# Altium footprint library IPC-SM-782 Section 14.1.2 PBGA 1.27mm.PcbLib: 49 footprints (part 7 of 11)
Each footprint in its own frame and in the unit in brackets; x right, y up, seen from the top. Pads: shape width x height; smd on the part's side, far side on the other; paste and mask are expansions set on the pad; w line width, h text height; cw(c..) or ccw(c..) is an arc to the next point about the centre after c.
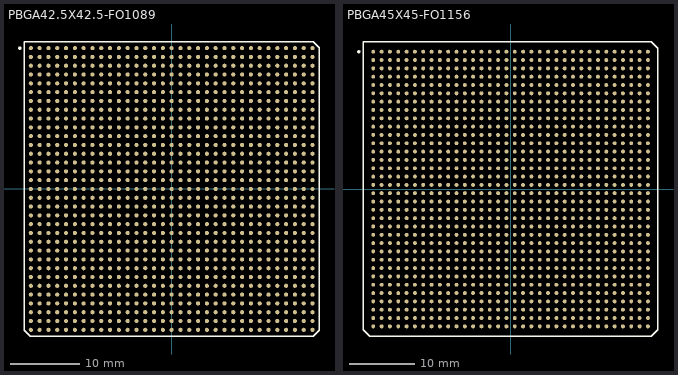
[diagram p6: the footprints below, top view; thin cyan lines are the x and y axes]

## PBGA42.5X42.5-FO1089 [mm] "BGA; 1089 Balls; Body 42.5 x 42.5 mm; Pitch 1.27 mm"
height 3.5
pads (1089):
  round 0.6 smd: A1(-20.32,20.32) A2(-19.05,20.32) A3(-17.78,20.32) A4(-16.51,20.32) A5(-15.24,20.32) A6(-13.97,20.32) A7(-12.7,20.32) A8(-11.43,20.32) A9(-10.16,20.32) A10(-8.89,20.32) A11(-7.62,20.32) A12(-6.35,20.32) A13(-5.08,20.32) A14(-3.81,20.32) A15(-2.54,20.32) A16(-1.27,20.32) A17(0,20.32) A18(1.27,20.32) A19(2.54,20.32) A20(3.81,20.32) A21(5.08,20.32) A22(6.35,20.32) A23(7.62,20.32) A24(8.89,20.32) A25(10.16,20.32) A26(11.43,20.32) A27(12.7,20.32) A28(13.97,20.32) A29(15.24,20.32) A30(16.51,20.32) A31(17.78,20.32) A32(19.05,20.32) A33(20.32,20.32) AA1(-20.32,-5.08) AA2(-19.05,-5.08) AA3(-17.78,-5.08) AA4(-16.51,-5.08) AA5(-15.24,-5.08) AA6(-13.97,-5.08) AA7(-12.7,-5.08) AA8(-11.43,-5.08) AA9(-10.16,-5.08) AA10(-8.89,-5.08) AA11(-7.62,-5.08) AA12(-6.35,-5.08) AA13(-5.08,-5.08) AA14(-3.81,-5.08) AA15(-2.54,-5.08) AA16(-1.27,-5.08) AA17(0,-5.08) AA18(1.27,-5.08) AA19(2.54,-5.08) AA20(3.81,-5.08) AA21(5.08,-5.08) AA22(6.35,-5.08) AA23(7.62,-5.08) AA24(8.89,-5.08) AA25(10.16,-5.08) AA26(11.43,-5.08) AA27(12.7,-5.08) AA28(13.97,-5.08) AA29(15.24,-5.08) AA30(16.51,-5.08) AA31(17.78,-5.08) AA32(19.05,-5.08) AA33(20.32,-5.08) AB1(-20.32,-6.35) AB2(-19.05,-6.35) AB3(-17.78,-6.35) AB4(-16.51,-6.35) AB5(-15.24,-6.35) AB6(-13.97,-6.35) AB7(-12.7,-6.35) AB8(-11.43,-6.35) AB9(-10.16,-6.35) AB10(-8.89,-6.35) AB11(-7.62,-6.35) AB12(-6.35,-6.35) AB13(-5.08,-6.35) AB14(-3.81,-6.35) AB15(-2.54,-6.35) AB16(-1.27,-6.35) AB17(0,-6.35) AB18(1.27,-6.35) AB19(2.54,-6.35) AB20(3.81,-6.35) AB21(5.08,-6.35) AB22(6.35,-6.35) AB23(7.62,-6.35) AB24(8.89,-6.35) AB25(10.16,-6.35) AB26(11.43,-6.35) AB27(12.7,-6.35) AB28(13.97,-6.35) AB29(15.24,-6.35) AB30(16.51,-6.35) AB31(17.78,-6.35) AB32(19.05,-6.35) AB33(20.32,-6.35) AC1(-20.32,-7.62) AC2(-19.05,-7.62) AC3(-17.78,-7.62) AC4(-16.51,-7.62) AC5(-15.24,-7.62) AC6(-13.97,-7.62) AC7(-12.7,-7.62) AC8(-11.43,-7.62) AC9(-10.16,-7.62) AC10(-8.89,-7.62) AC11(-7.62,-7.62) AC12(-6.35,-7.62) AC13(-5.08,-7.62) AC14(-3.81,-7.62) AC15(-2.54,-7.62) AC16(-1.27,-7.62) AC17(0,-7.62) AC18(1.27,-7.62) AC19(2.54,-7.62) AC20(3.81,-7.62) AC21(5.08,-7.62) AC22(6.35,-7.62) AC23(7.62,-7.62) AC24(8.89,-7.62) AC25(10.16,-7.62) AC26(11.43,-7.62) AC27(12.7,-7.62) AC28(13.97,-7.62) AC29(15.24,-7.62) AC30(16.51,-7.62) AC31(17.78,-7.62) AC32(19.05,-7.62) AC33(20.32,-7.62) AD1(-20.32,-8.89) AD2(-19.05,-8.89) AD3(-17.78,-8.89) AD4(-16.51,-8.89) AD5(-15.24,-8.89) AD6(-13.97,-8.89) AD7(-12.7,-8.89) AD8(-11.43,-8.89) AD9(-10.16,-8.89) AD10(-8.89,-8.89) AD11(-7.62,-8.89) AD12(-6.35,-8.89) AD13(-5.08,-8.89) AD14(-3.81,-8.89) AD15(-2.54,-8.89) AD16(-1.27,-8.89) AD17(0,-8.89) AD18(1.27,-8.89) AD19(2.54,-8.89) AD20(3.81,-8.89) AD21(5.08,-8.89) AD22(6.35,-8.89) AD23(7.62,-8.89) AD24(8.89,-8.89) AD25(10.16,-8.89) AD26(11.43,-8.89) AD27(12.7,-8.89) AD28(13.97,-8.89) AD29(15.24,-8.89) AD30(16.51,-8.89) AD31(17.78,-8.89) AD32(19.05,-8.89) AD33(20.32,-8.89) AE1(-20.32,-10.16) AE2(-19.05,-10.16) AE3(-17.78,-10.16) AE4(-16.51,-10.16) AE5(-15.24,-10.16) AE6(-13.97,-10.16) AE7(-12.7,-10.16) AE8(-11.43,-10.16) AE9(-10.16,-10.16) AE10(-8.89,-10.16) AE11(-7.62,-10.16) AE12(-6.35,-10.16) AE13(-5.08,-10.16) AE14(-3.81,-10.16) AE15(-2.54,-10.16) AE16(-1.27,-10.16) AE17(0,-10.16) AE18(1.27,-10.16) AE19(2.54,-10.16) AE20(3.81,-10.16) AE21(5.08,-10.16) AE22(6.35,-10.16) AE23(7.62,-10.16) AE24(8.89,-10.16) AE25(10.16,-10.16) AE26(11.43,-10.16) AE27(12.7,-10.16) AE28(13.97,-10.16) AE29(15.24,-10.16) AE30(16.51,-10.16) AE31(17.78,-10.16) AE32(19.05,-10.16) AE33(20.32,-10.16) AF1(-20.32,-11.43) AF2(-19.05,-11.43) AF3(-17.78,-11.43) AF4(-16.51,-11.43) AF5(-15.24,-11.43) AF6(-13.97,-11.43) AF7(-12.7,-11.43) AF8(-11.43,-11.43) AF9(-10.16,-11.43) AF10(-8.89,-11.43) AF11(-7.62,-11.43) AF12(-6.35,-11.43) AF13(-5.08,-11.43) AF14(-3.81,-11.43) AF15(-2.54,-11.43) AF16(-1.27,-11.43) AF17(0,-11.43) AF18(1.27,-11.43) AF19(2.54,-11.43) AF20(3.81,-11.43) AF21(5.08,-11.43) AF22(6.35,-11.43) AF23(7.62,-11.43) AF24(8.89,-11.43) AF25(10.16,-11.43) AF26(11.43,-11.43) AF27(12.7,-11.43) AF28(13.97,-11.43) AF29(15.24,-11.43) AF30(16.51,-11.43) AF31(17.78,-11.43) AF32(19.05,-11.43) AF33(20.32,-11.43) AG1(-20.32,-12.7) AG2(-19.05,-12.7) AG3(-17.78,-12.7) AG4(-16.51,-12.7) AG5(-15.24,-12.7) AG6(-13.97,-12.7) AG7(-12.7,-12.7) AG8(-11.43,-12.7) AG9(-10.16,-12.7) AG10(-8.89,-12.7) AG11(-7.62,-12.7) AG12(-6.35,-12.7) AG13(-5.08,-12.7) AG14(-3.81,-12.7) AG15(-2.54,-12.7) AG16(-1.27,-12.7) AG17(0,-12.7) AG18(1.27,-12.7) AG19(2.54,-12.7) AG20(3.81,-12.7) AG21(5.08,-12.7) AG22(6.35,-12.7) AG23(7.62,-12.7) AG24(8.89,-12.7) AG25(10.16,-12.7) AG26(11.43,-12.7) AG27(12.7,-12.7) AG28(13.97,-12.7) AG29(15.24,-12.7) AG30(16.51,-12.7) AG31(17.78,-12.7) AG32(19.05,-12.7) AG33(20.32,-12.7) AH1(-20.32,-13.97) AH2(-19.05,-13.97) AH3(-17.78,-13.97) AH4(-16.51,-13.97) AH5(-15.24,-13.97) AH6(-13.97,-13.97) AH7(-12.7,-13.97) AH8(-11.43,-13.97) AH9(-10.16,-13.97) AH10(-8.89,-13.97) AH11(-7.62,-13.97) AH12(-6.35,-13.97) AH13(-5.08,-13.97) AH14(-3.81,-13.97) AH15(-2.54,-13.97) AH16(-1.27,-13.97) AH17(0,-13.97) AH18(1.27,-13.97) AH19(2.54,-13.97) AH20(3.81,-13.97) AH21(5.08,-13.97) AH22(6.35,-13.97) AH23(7.62,-13.97) AH24(8.89,-13.97) AH25(10.16,-13.97) AH26(11.43,-13.97) AH27(12.7,-13.97) AH28(13.97,-13.97) AH29(15.24,-13.97) AH30(16.51,-13.97) AH31(17.78,-13.97) AH32(19.05,-13.97) AH33(20.32,-13.97) AJ1(-20.32,-15.24) AJ2(-19.05,-15.24) AJ3(-17.78,-15.24) AJ4(-16.51,-15.24) AJ5(-15.24,-15.24) AJ6(-13.97,-15.24) AJ7(-12.7,-15.24) AJ8(-11.43,-15.24) AJ9(-10.16,-15.24) AJ10(-8.89,-15.24) AJ11(-7.62,-15.24) AJ12(-6.35,-15.24) AJ13(-5.08,-15.24) AJ14(-3.81,-15.24) AJ15(-2.54,-15.24) AJ16(-1.27,-15.24) AJ17(0,-15.24) AJ18(1.27,-15.24) AJ19(2.54,-15.24) AJ20(3.81,-15.24) AJ21(5.08,-15.24) AJ22(6.35,-15.24) AJ23(7.62,-15.24) AJ24(8.89,-15.24) AJ25(10.16,-15.24) AJ26(11.43,-15.24) AJ27(12.7,-15.24) AJ28(13.97,-15.24) AJ29(15.24,-15.24) AJ30(16.51,-15.24) AJ31(17.78,-15.24) AJ32(19.05,-15.24) AJ33(20.32,-15.24) AK1(-20.32,-16.51) AK2(-19.05,-16.51) AK3(-17.78,-16.51) AK4(-16.51,-16.51) AK5(-15.24,-16.51) AK6(-13.97,-16.51) AK7(-12.7,-16.51) AK8(-11.43,-16.51) AK9(-10.16,-16.51) AK10(-8.89,-16.51) AK11(-7.62,-16.51) AK12(-6.35,-16.51) AK13(-5.08,-16.51) AK14(-3.81,-16.51) AK15(-2.54,-16.51) AK16(-1.27,-16.51) AK17(0,-16.51) AK18(1.27,-16.51) AK19(2.54,-16.51) AK20(3.81,-16.51) AK21(5.08,-16.51) AK22(6.35,-16.51) AK23(7.62,-16.51) AK24(8.89,-16.51) AK25(10.16,-16.51) AK26(11.43,-16.51) AK27(12.7,-16.51) AK28(13.97,-16.51) AK29(15.24,-16.51) AK30(16.51,-16.51) AK31(17.78,-16.51) AK32(19.05,-16.51) AK33(20.32,-16.51) AL1(-20.32,-17.78) AL2(-19.05,-17.78) AL3(-17.78,-17.78) AL4(-16.51,-17.78) AL5(-15.24,-17.78) AL6(-13.97,-17.78) AL7(-12.7,-17.78) AL8(-11.43,-17.78) AL9(-10.16,-17.78) AL10(-8.89,-17.78) AL11(-7.62,-17.78) AL12(-6.35,-17.78) AL13(-5.08,-17.78) AL14(-3.81,-17.78) AL15(-2.54,-17.78) AL16(-1.27,-17.78) AL17(0,-17.78) AL18(1.27,-17.78) AL19(2.54,-17.78) AL20(3.81,-17.78) AL21(5.08,-17.78) AL22(6.35,-17.78) AL23(7.62,-17.78) AL24(8.89,-17.78) AL25(10.16,-17.78) AL26(11.43,-17.78) AL27(12.7,-17.78) AL28(13.97,-17.78) AL29(15.24,-17.78) AL30(16.51,-17.78) AL31(17.78,-17.78) AL32(19.05,-17.78) AL33(20.32,-17.78) AM1(-20.32,-19.05) AM2(-19.05,-19.05) AM3(-17.78,-19.05) AM4(-16.51,-19.05) AM5(-15.24,-19.05) AM6(-13.97,-19.05) AM7(-12.7,-19.05) AM8(-11.43,-19.05) AM9(-10.16,-19.05) AM10(-8.89,-19.05) AM11(-7.62,-19.05) AM12(-6.35,-19.05) AM13(-5.08,-19.05) AM14(-3.81,-19.05) AM15(-2.54,-19.05) AM16(-1.27,-19.05) AM17(0,-19.05) AM18(1.27,-19.05) AM19(2.54,-19.05) AM20(3.81,-19.05) AM21(5.08,-19.05) AM22(6.35,-19.05) AM23(7.62,-19.05) AM24(8.89,-19.05) AM25(10.16,-19.05) AM26(11.43,-19.05) AM27(12.7,-19.05) AM28(13.97,-19.05) AM29(15.24,-19.05) AM30(16.51,-19.05) AM31(17.78,-19.05) AM32(19.05,-19.05) AM33(20.32,-19.05) AN1(-20.32,-20.32) AN2(-19.05,-20.32) AN3(-17.78,-20.32) AN4(-16.51,-20.32) AN5(-15.24,-20.32) AN6(-13.97,-20.32) AN7(-12.7,-20.32) AN8(-11.43,-20.32) AN9(-10.16,-20.32) AN10(-8.89,-20.32) AN11(-7.62,-20.32) AN12(-6.35,-20.32) AN13(-5.08,-20.32) AN14(-3.81,-20.32) AN15(-2.54,-20.32) AN16(-1.27,-20.32) AN17(0,-20.32) AN18(1.27,-20.32) AN19(2.54,-20.32) AN20(3.81,-20.32) AN21(5.08,-20.32) AN22(6.35,-20.32) AN23(7.62,-20.32) AN24(8.89,-20.32) AN25(10.16,-20.32) AN26(11.43,-20.32) AN27(12.7,-20.32) AN28(13.97,-20.32) AN29(15.24,-20.32) AN30(16.51,-20.32) AN31(17.78,-20.32) AN32(19.05,-20.32) AN33(20.32,-20.32) B1(-20.32,19.05) B2(-19.05,19.05) B3(-17.78,19.05) B4(-16.51,19.05) B5(-15.24,19.05) B6(-13.97,19.05) B7(-12.7,19.05) B8(-11.43,19.05) B9(-10.16,19.05) B10(-8.89,19.05) B11(-7.62,19.05) B12(-6.35,19.05) B13(-5.08,19.05) B14(-3.81,19.05) B15(-2.54,19.05) B16(-1.27,19.05) B17(0,19.05) B18(1.27,19.05) B19(2.54,19.05) B20(3.81,19.05) B21(5.08,19.05) B22(6.35,19.05) B23(7.62,19.05) B24(8.89,19.05) B25(10.16,19.05) B26(11.43,19.05) B27(12.7,19.05) B28(13.97,19.05) B29(15.24,19.05) B30(16.51,19.05) B31(17.78,19.05) B32(19.05,19.05) B33(20.32,19.05) C1(-20.32,17.78) C2(-19.05,17.78) C3(-17.78,17.78) C4(-16.51,17.78) C5(-15.24,17.78) C6(-13.97,17.78) C7(-12.7,17.78) C8(-11.43,17.78) C9(-10.16,17.78) C10(-8.89,17.78) C11(-7.62,17.78) C12(-6.35,17.78) C13(-5.08,17.78) C14(-3.81,17.78) C15(-2.54,17.78) C16(-1.27,17.78) C17(0,17.78) C18(1.27,17.78) C19(2.54,17.78) C20(3.81,17.78) C21(5.08,17.78) C22(6.35,17.78) C23(7.62,17.78) C24(8.89,17.78) C25(10.16,17.78) C26(11.43,17.78) C27(12.7,17.78) C28(13.97,17.78) C29(15.24,17.78) C30(16.51,17.78) C31(17.78,17.78) C32(19.05,17.78) C33(20.32,17.78) D1(-20.32,16.51) D2(-19.05,16.51) D3(-17.78,16.51) D4(-16.51,16.51) D5(-15.24,16.51) D6(-13.97,16.51) D7(-12.7,16.51) D8(-11.43,16.51) D9(-10.16,16.51) D10(-8.89,16.51) D11(-7.62,16.51) D12(-6.35,16.51) D13(-5.08,16.51) D14(-3.81,16.51) D15(-2.54,16.51) D16(-1.27,16.51) D17(0,16.51) D18(1.27,16.51) D19(2.54,16.51) D20(3.81,16.51) D21(5.08,16.51) D22(6.35,16.51) D23(7.62,16.51) D24(8.89,16.51) D25(10.16,16.51) D26(11.43,16.51) D27(12.7,16.51) D28(13.97,16.51) D29(15.24,16.51) D30(16.51,16.51) D31(17.78,16.51) D32(19.05,16.51) D33(20.32,16.51) E1(-20.32,15.24) E2(-19.05,15.24) E3(-17.78,15.24) E4(-16.51,15.24) E5(-15.24,15.24) E6(-13.97,15.24) E7(-12.7,15.24) E8(-11.43,15.24) E9(-10.16,15.24) E10(-8.89,15.24) E11(-7.62,15.24) E12(-6.35,15.24) E13(-5.08,15.24) E14(-3.81,15.24) E15(-2.54,15.24) E16(-1.27,15.24) E17(0,15.24) E18(1.27,15.24) E19(2.54,15.24) E20(3.81,15.24) E21(5.08,15.24) E22(6.35,15.24) E23(7.62,15.24) E24(8.89,15.24) E25(10.16,15.24) E26(11.43,15.24) E27(12.7,15.24) E28(13.97,15.24) E29(15.24,15.24) E30(16.51,15.24) E31(17.78,15.24) E32(19.05,15.24) E33(20.32,15.24) F1(-20.32,13.97) F2(-19.05,13.97) F3(-17.78,13.97) F4(-16.51,13.97) F5(-15.24,13.97) F6(-13.97,13.97) F7(-12.7,13.97) F8(-11.43,13.97) F9(-10.16,13.97) F10(-8.89,13.97) F11(-7.62,13.97) F12(-6.35,13.97) F13(-5.08,13.97) F14(-3.81,13.97) F15(-2.54,13.97) F16(-1.27,13.97) F17(0,13.97) F18(1.27,13.97) F19(2.54,13.97) F20(3.81,13.97) F21(5.08,13.97) F22(6.35,13.97) F23(7.62,13.97) F24(8.89,13.97) F25(10.16,13.97) F26(11.43,13.97) F27(12.7,13.97) F28(13.97,13.97) F29(15.24,13.97) F30(16.51,13.97) F31(17.78,13.97) F32(19.05,13.97) F33(20.32,13.97) G1(-20.32,12.7) G2(-19.05,12.7) G3(-17.78,12.7) G4(-16.51,12.7) G5(-15.24,12.7) G6(-13.97,12.7) G7(-12.7,12.7) G8(-11.43,12.7) G9(-10.16,12.7) G10(-8.89,12.7) G11(-7.62,12.7) G12(-6.35,12.7) G13(-5.08,12.7) G14(-3.81,12.7) G15(-2.54,12.7) G16(-1.27,12.7) G17(0,12.7) G18(1.27,12.7) G19(2.54,12.7) G20(3.81,12.7) G21(5.08,12.7) G22(6.35,12.7) G23(7.62,12.7) G24(8.89,12.7) G25(10.16,12.7) G26(11.43,12.7) G27(12.7,12.7) G28(13.97,12.7) G29(15.24,12.7) G30(16.51,12.7) G31(17.78,12.7) G32(19.05,12.7) G33(20.32,12.7) H1(-20.32,11.43) H2(-19.05,11.43) H3(-17.78,11.43) H4(-16.51,11.43) H5(-15.24,11.43) H6(-13.97,11.43) H7(-12.7,11.43) H8(-11.43,11.43) H9(-10.16,11.43) H10(-8.89,11.43) H11(-7.62,11.43) H12(-6.35,11.43) H13(-5.08,11.43) H14(-3.81,11.43) H15(-2.54,11.43) H16(-1.27,11.43) H17(0,11.43) H18(1.27,11.43) H19(2.54,11.43) H20(3.81,11.43) H21(5.08,11.43) H22(6.35,11.43) H23(7.62,11.43) H24(8.89,11.43) H25(10.16,11.43) H26(11.43,11.43) H27(12.7,11.43) H28(13.97,11.43) H29(15.24,11.43) H30(16.51,11.43) H31(17.78,11.43) H32(19.05,11.43) H33(20.32,11.43) J1(-20.32,10.16) J2(-19.05,10.16) J3(-17.78,10.16) J4(-16.51,10.16) J5(-15.24,10.16) J6(-13.97,10.16) J7(-12.7,10.16) J8(-11.43,10.16) J9(-10.16,10.16) J10(-8.89,10.16) J11(-7.62,10.16) J12(-6.35,10.16) J13(-5.08,10.16) J14(-3.81,10.16) J15(-2.54,10.16) J16(-1.27,10.16) J17(0,10.16) J18(1.27,10.16) J19(2.54,10.16) J20(3.81,10.16) J21(5.08,10.16) J22(6.35,10.16) J23(7.62,10.16) J24(8.89,10.16) J25(10.16,10.16) J26(11.43,10.16) J27(12.7,10.16) J28(13.97,10.16) J29(15.24,10.16) J30(16.51,10.16) J31(17.78,10.16) J32(19.05,10.16) J33(20.32,10.16) K1(-20.32,8.89) K2(-19.05,8.89) K3(-17.78,8.89) K4(-16.51,8.89) K5(-15.24,8.89) K6(-13.97,8.89) K7(-12.7,8.89) K8(-11.43,8.89) K9(-10.16,8.89) K10(-8.89,8.89) K11(-7.62,8.89) K12(-6.35,8.89) K13(-5.08,8.89) K14(-3.81,8.89) K15(-2.54,8.89) K16(-1.27,8.89) K17(0,8.89) K18(1.27,8.89) K19(2.54,8.89) K20(3.81,8.89) K21(5.08,8.89) K22(6.35,8.89) K23(7.62,8.89) K24(8.89,8.89) K25(10.16,8.89) K26(11.43,8.89) K27(12.7,8.89) K28(13.97,8.89) K29(15.24,8.89) K30(16.51,8.89) K31(17.78,8.89) K32(19.05,8.89) K33(20.32,8.89) L1(-20.32,7.62) L2(-19.05,7.62) L3(-17.78,7.62) L4(-16.51,7.62) L5(-15.24,7.62) L6(-13.97,7.62) L7(-12.7,7.62) L8(-11.43,7.62) L9(-10.16,7.62) L10(-8.89,7.62) L11(-7.62,7.62) L12(-6.35,7.62) L13(-5.08,7.62) L14(-3.81,7.62) L15(-2.54,7.62) L16(-1.27,7.62) L17(0,7.62) L18(1.27,7.62) L19(2.54,7.62) L20(3.81,7.62) L21(5.08,7.62) L22(6.35,7.62) L23(7.62,7.62) L24(8.89,7.62) L25(10.16,7.62) L26(11.43,7.62) L27(12.7,7.62) L28(13.97,7.62) L29(15.24,7.62) L30(16.51,7.62) L31(17.78,7.62) L32(19.05,7.62) L33(20.32,7.62) M1(-20.32,6.35) M2(-19.05,6.35) M3(-17.78,6.35) M4(-16.51,6.35) M5(-15.24,6.35) M6(-13.97,6.35) M7(-12.7,6.35) M8(-11.43,6.35) M9(-10.16,6.35) M10(-8.89,6.35) M11(-7.62,6.35) M12(-6.35,6.35) M13(-5.08,6.35) M14(-3.81,6.35) M15(-2.54,6.35) M16(-1.27,6.35) M17(0,6.35) M18(1.27,6.35) M19(2.54,6.35) M20(3.81,6.35) M21(5.08,6.35) M22(6.35,6.35) M23(7.62,6.35) M24(8.89,6.35) M25(10.16,6.35) M26(11.43,6.35) M27(12.7,6.35) M28(13.97,6.35) M29(15.24,6.35) M30(16.51,6.35) M31(17.78,6.35) M32(19.05,6.35) M33(20.32,6.35) N1(-20.32,5.08) N2(-19.05,5.08) N3(-17.78,5.08) N4(-16.51,5.08) N5(-15.24,5.08) N6(-13.97,5.08) N7(-12.7,5.08) N8(-11.43,5.08) N9(-10.16,5.08) N10(-8.89,5.08) N11(-7.62,5.08) N12(-6.35,5.08) N13(-5.08,5.08) N14(-3.81,5.08) N15(-2.54,5.08) N16(-1.27,5.08) N17(0,5.08) N18(1.27,5.08) N19(2.54,5.08) N20(3.81,5.08) N21(5.08,5.08) N22(6.35,5.08) N23(7.62,5.08) N24(8.89,5.08) N25(10.16,5.08) N26(11.43,5.08) N27(12.7,5.08) N28(13.97,5.08) N29(15.24,5.08) N30(16.51,5.08) N31(17.78,5.08) N32(19.05,5.08) N33(20.32,5.08) P1(-20.32,3.81) P2(-19.05,3.81) P3(-17.78,3.81) P4(-16.51,3.81) P5(-15.24,3.81) P6(-13.97,3.81) P7(-12.7,3.81) P8(-11.43,3.81) P9(-10.16,3.81) P10(-8.89,3.81) P11(-7.62,3.81) P12(-6.35,3.81) P13(-5.08,3.81) P14(-3.81,3.81) P15(-2.54,3.81) P16(-1.27,3.81) P17(0,3.81) P18(1.27,3.81) P19(2.54,3.81) P20(3.81,3.81) P21(5.08,3.81) P22(6.35,3.81) P23(7.62,3.81) P24(8.89,3.81) P25(10.16,3.81) P26(11.43,3.81) P27(12.7,3.81) P28(13.97,3.81) P29(15.24,3.81) P30(16.51,3.81) P31(17.78,3.81) P32(19.05,3.81) P33(20.32,3.81) R1(-20.32,2.54) R2(-19.05,2.54) R3(-17.78,2.54) R4(-16.51,2.54) R5(-15.24,2.54) R6(-13.97,2.54) R7(-12.7,2.54) R8(-11.43,2.54) R9(-10.16,2.54) R10(-8.89,2.54) R11(-7.62,2.54) R12(-6.35,2.54) R13(-5.08,2.54) R14(-3.81,2.54) R15(-2.54,2.54) R16(-1.27,2.54) R17(0,2.54) R18(1.27,2.54) R19(2.54,2.54) R20(3.81,2.54) R21(5.08,2.54) R22(6.35,2.54) R23(7.62,2.54) R24(8.89,2.54) R25(10.16,2.54) R26(11.43,2.54) R27(12.7,2.54) R28(13.97,2.54) R29(15.24,2.54) R30(16.51,2.54) R31(17.78,2.54) R32(19.05,2.54) R33(20.32,2.54) T1(-20.32,1.27) T2(-19.05,1.27) T3(-17.78,1.27) T4(-16.51,1.27) T5(-15.24,1.27) T6(-13.97,1.27) T7(-12.7,1.27) T8(-11.43,1.27) T9(-10.16,1.27) T10(-8.89,1.27) T11(-7.62,1.27) T12(-6.35,1.27) T13(-5.08,1.27) T14(-3.81,1.27) T15(-2.54,1.27) T16(-1.27,1.27) T17(0,1.27) T18(1.27,1.27) T19(2.54,1.27) T20(3.81,1.27) T21(5.08,1.27) T22(6.35,1.27) T23(7.62,1.27) T24(8.89,1.27) T25(10.16,1.27) T26(11.43,1.27) T27(12.7,1.27) T28(13.97,1.27) T29(15.24,1.27) T30(16.51,1.27) T31(17.78,1.27) T32(19.05,1.27) T33(20.32,1.27) U1(-20.32,0) U2(-19.05,0) U3(-17.78,0) U4(-16.51,0) U5(-15.24,0) U6(-13.97,0) U7(-12.7,0) U8(-11.43,0) U9(-10.16,0) U10(-8.89,0) U11(-7.62,0) U12(-6.35,0) U13(-5.08,0) U14(-3.81,0) U15(-2.54,0) U16(-1.27,0) U17(0,0) U18(1.27,0) U19(2.54,0) U20(3.81,0) U21(5.08,0) U22(6.35,0) U23(7.62,0) U24(8.89,0) U25(10.16,0) U26(11.43,0) U27(12.7,0) U28(13.97,0) U29(15.24,0) U30(16.51,0) U31(17.78,0) U32(19.05,0) U33(20.32,0) V1(-20.32,-1.27) V2(-19.05,-1.27) V3(-17.78,-1.27) V4(-16.51,-1.27) V5(-15.24,-1.27) V6(-13.97,-1.27) V7(-12.7,-1.27) V8(-11.43,-1.27) V9(-10.16,-1.27) V10(-8.89,-1.27) V11(-7.62,-1.27) V12(-6.35,-1.27) V13(-5.08,-1.27) V14(-3.81,-1.27) V15(-2.54,-1.27) V16(-1.27,-1.27) V17(0,-1.27) V18(1.27,-1.27) V19(2.54,-1.27) V20(3.81,-1.27) V21(5.08,-1.27) V22(6.35,-1.27) V23(7.62,-1.27) V24(8.89,-1.27) V25(10.16,-1.27) V26(11.43,-1.27) V27(12.7,-1.27) V28(13.97,-1.27) V29(15.24,-1.27) V30(16.51,-1.27) V31(17.78,-1.27) V32(19.05,-1.27) V33(20.32,-1.27) W1(-20.32,-2.54) W2(-19.05,-2.54) W3(-17.78,-2.54) W4(-16.51,-2.54) W5(-15.24,-2.54) W6(-13.97,-2.54) W7(-12.7,-2.54) W8(-11.43,-2.54) W9(-10.16,-2.54) W10(-8.89,-2.54) W11(-7.62,-2.54) W12(-6.35,-2.54) W13(-5.08,-2.54) W14(-3.81,-2.54) W15(-2.54,-2.54) W16(-1.27,-2.54) W17(0,-2.54) W18(1.27,-2.54) W19(2.54,-2.54) W20(3.81,-2.54) W21(5.08,-2.54) W22(6.35,-2.54) W23(7.62,-2.54) W24(8.89,-2.54) W25(10.16,-2.54) W26(11.43,-2.54) W27(12.7,-2.54) W28(13.97,-2.54) W29(15.24,-2.54) W30(16.51,-2.54) W31(17.78,-2.54) W32(19.05,-2.54) W33(20.32,-2.54) Y1(-20.32,-3.81) Y2(-19.05,-3.81) Y3(-17.78,-3.81) Y4(-16.51,-3.81) Y5(-15.24,-3.81) Y6(-13.97,-3.81) Y7(-12.7,-3.81) Y8(-11.43,-3.81) Y9(-10.16,-3.81) Y10(-8.89,-3.81) Y11(-7.62,-3.81) Y12(-6.35,-3.81) Y13(-5.08,-3.81) Y14(-3.81,-3.81) Y15(-2.54,-3.81) Y16(-1.27,-3.81) Y17(0,-3.81) Y18(1.27,-3.81) Y19(2.54,-3.81) Y20(3.81,-3.81) Y21(5.08,-3.81) Y22(6.35,-3.81) Y23(7.62,-3.81) Y24(8.89,-3.81) Y25(10.16,-3.81) Y26(11.43,-3.81) Y27(12.7,-3.81) Y28(13.97,-3.81) Y29(15.24,-3.81) Y30(16.51,-3.81) Y31(17.78,-3.81) Y32(19.05,-3.81) Y33(20.32,-3.81)
Top Overlay:
  circle w0.25: c-21.9,20.32 r0.125
  lines w0.2: -21.245,-20.395 -20.385,-21.255 20.395,-21.255 21.255,-20.395 21.255,20.385 20.395,21.245 -21.245,21.245 -21.245,-20.395

## PBGA45X45-FO1156 [mm] "BGA; 1156 Balls; Body 45 x 45 mm; Pitch 1.27 mm"
height 3.5
pads (1156):
  round 0.6 smd: A1(-20.955,20.955) A2(-19.685,20.955) A3(-18.415,20.955) A4(-17.145,20.955) A5(-15.875,20.955) A6(-14.605,20.955) A7(-13.335,20.955) A8(-12.065,20.955) A9(-10.795,20.955) A10(-9.525,20.955) A11(-8.255,20.955) A12(-6.985,20.955) A13(-5.715,20.955) A14(-4.445,20.955) A15(-3.175,20.955) A16(-1.905,20.955) A17(-0.635,20.955) A18(0.635,20.955) A19(1.905,20.955) A20(3.175,20.955) A21(4.445,20.955) A22(5.715,20.955) A23(6.985,20.955) A24(8.255,20.955) A25(9.525,20.955) A26(10.795,20.955) A27(12.065,20.955) A28(13.335,20.955) A29(14.605,20.955) A30(15.875,20.955) A31(17.145,20.955) A32(18.415,20.955) A33(19.685,20.955) A34(20.955,20.955) AA1(-20.955,-4.445) AA2(-19.685,-4.445) AA3(-18.415,-4.445) AA4(-17.145,-4.445) AA5(-15.875,-4.445) AA6(-14.605,-4.445) AA7(-13.335,-4.445) AA8(-12.065,-4.445) AA9(-10.795,-4.445) AA10(-9.525,-4.445) AA11(-8.255,-4.445) AA12(-6.985,-4.445) AA13(-5.715,-4.445) AA14(-4.445,-4.445) AA15(-3.175,-4.445) AA16(-1.905,-4.445) AA17(-0.635,-4.445) AA18(0.635,-4.445) AA19(1.905,-4.445) AA20(3.175,-4.445) AA21(4.445,-4.445) AA22(5.715,-4.445) AA23(6.985,-4.445) AA24(8.255,-4.445) AA25(9.525,-4.445) AA26(10.795,-4.445) AA27(12.065,-4.445) AA28(13.335,-4.445) AA29(14.605,-4.445) AA30(15.875,-4.445) AA31(17.145,-4.445) AA32(18.415,-4.445) AA33(19.685,-4.445) AA34(20.955,-4.445) AB1(-20.955,-5.715) AB2(-19.685,-5.715) AB3(-18.415,-5.715) AB4(-17.145,-5.715) AB5(-15.875,-5.715) AB6(-14.605,-5.715) AB7(-13.335,-5.715) AB8(-12.065,-5.715) AB9(-10.795,-5.715) AB10(-9.525,-5.715) AB11(-8.255,-5.715) AB12(-6.985,-5.715) AB13(-5.715,-5.715) AB14(-4.445,-5.715) AB15(-3.175,-5.715) AB16(-1.905,-5.715) AB17(-0.635,-5.715) AB18(0.635,-5.715) AB19(1.905,-5.715) AB20(3.175,-5.715) AB21(4.445,-5.715) AB22(5.715,-5.715) AB23(6.985,-5.715) AB24(8.255,-5.715) AB25(9.525,-5.715) AB26(10.795,-5.715) AB27(12.065,-5.715) AB28(13.335,-5.715) AB29(14.605,-5.715) AB30(15.875,-5.715) AB31(17.145,-5.715) AB32(18.415,-5.715) AB33(19.685,-5.715) AB34(20.955,-5.715) AC1(-20.955,-6.985) AC2(-19.685,-6.985) AC3(-18.415,-6.985) AC4(-17.145,-6.985) AC5(-15.875,-6.985) AC6(-14.605,-6.985) AC7(-13.335,-6.985) AC8(-12.065,-6.985) AC9(-10.795,-6.985) AC10(-9.525,-6.985) AC11(-8.255,-6.985) AC12(-6.985,-6.985) AC13(-5.715,-6.985) AC14(-4.445,-6.985) AC15(-3.175,-6.985) AC16(-1.905,-6.985) AC17(-0.635,-6.985) AC18(0.635,-6.985) AC19(1.905,-6.985) AC20(3.175,-6.985) AC21(4.445,-6.985) AC22(5.715,-6.985) AC23(6.985,-6.985) AC24(8.255,-6.985) AC25(9.525,-6.985) AC26(10.795,-6.985) AC27(12.065,-6.985) AC28(13.335,-6.985) AC29(14.605,-6.985) AC30(15.875,-6.985) AC31(17.145,-6.985) AC32(18.415,-6.985) AC33(19.685,-6.985) AC34(20.955,-6.985) AD1(-20.955,-8.255) AD2(-19.685,-8.255) AD3(-18.415,-8.255) AD4(-17.145,-8.255) AD5(-15.875,-8.255) AD6(-14.605,-8.255) AD7(-13.335,-8.255) AD8(-12.065,-8.255) AD9(-10.795,-8.255) AD10(-9.525,-8.255) AD11(-8.255,-8.255) AD12(-6.985,-8.255) AD13(-5.715,-8.255) AD14(-4.445,-8.255) AD15(-3.175,-8.255) AD16(-1.905,-8.255) AD17(-0.635,-8.255) AD18(0.635,-8.255) AD19(1.905,-8.255) AD20(3.175,-8.255) AD21(4.445,-8.255) AD22(5.715,-8.255) AD23(6.985,-8.255) AD24(8.255,-8.255) AD25(9.525,-8.255) AD26(10.795,-8.255) AD27(12.065,-8.255) AD28(13.335,-8.255) AD29(14.605,-8.255) AD30(15.875,-8.255) AD31(17.145,-8.255) AD32(18.415,-8.255) AD33(19.685,-8.255) AD34(20.955,-8.255) AE1(-20.955,-9.525) AE2(-19.685,-9.525) AE3(-18.415,-9.525) AE4(-17.145,-9.525) AE5(-15.875,-9.525) AE6(-14.605,-9.525) AE7(-13.335,-9.525) AE8(-12.065,-9.525) AE9(-10.795,-9.525) AE10(-9.525,-9.525) AE11(-8.255,-9.525) AE12(-6.985,-9.525) AE13(-5.715,-9.525) AE14(-4.445,-9.525) AE15(-3.175,-9.525) AE16(-1.905,-9.525) AE17(-0.635,-9.525) AE18(0.635,-9.525) AE19(1.905,-9.525) AE20(3.175,-9.525) AE21(4.445,-9.525) AE22(5.715,-9.525) AE23(6.985,-9.525) AE24(8.255,-9.525) AE25(9.525,-9.525) AE26(10.795,-9.525) AE27(12.065,-9.525) AE28(13.335,-9.525) AE29(14.605,-9.525) AE30(15.875,-9.525) AE31(17.145,-9.525) AE32(18.415,-9.525) AE33(19.685,-9.525) AE34(20.955,-9.525) AF1(-20.955,-10.795) AF2(-19.685,-10.795) AF3(-18.415,-10.795) AF4(-17.145,-10.795) AF5(-15.875,-10.795) AF6(-14.605,-10.795) AF7(-13.335,-10.795) AF8(-12.065,-10.795) AF9(-10.795,-10.795) AF10(-9.525,-10.795) AF11(-8.255,-10.795) AF12(-6.985,-10.795) AF13(-5.715,-10.795) AF14(-4.445,-10.795) AF15(-3.175,-10.795) AF16(-1.905,-10.795) AF17(-0.635,-10.795) AF18(0.635,-10.795) AF19(1.905,-10.795) AF20(3.175,-10.795) AF21(4.445,-10.795) AF22(5.715,-10.795) AF23(6.985,-10.795) AF24(8.255,-10.795) AF25(9.525,-10.795) AF26(10.795,-10.795) AF27(12.065,-10.795) AF28(13.335,-10.795) AF29(14.605,-10.795) AF30(15.875,-10.795) AF31(17.145,-10.795) AF32(18.415,-10.795) AF33(19.685,-10.795) AF34(20.955,-10.795) AG1(-20.955,-12.065) AG2(-19.685,-12.065) AG3(-18.415,-12.065) AG4(-17.145,-12.065) AG5(-15.875,-12.065) AG6(-14.605,-12.065) AG7(-13.335,-12.065) AG8(-12.065,-12.065) AG9(-10.795,-12.065) AG10(-9.525,-12.065) AG11(-8.255,-12.065) AG12(-6.985,-12.065) AG13(-5.715,-12.065) AG14(-4.445,-12.065) AG15(-3.175,-12.065) AG16(-1.905,-12.065) AG17(-0.635,-12.065) AG18(0.635,-12.065) AG19(1.905,-12.065) AG20(3.175,-12.065) AG21(4.445,-12.065) AG22(5.715,-12.065) AG23(6.985,-12.065) AG24(8.255,-12.065) AG25(9.525,-12.065) AG26(10.795,-12.065) AG27(12.065,-12.065) AG28(13.335,-12.065) AG29(14.605,-12.065) AG30(15.875,-12.065) AG31(17.145,-12.065) AG32(18.415,-12.065) AG33(19.685,-12.065) AG34(20.955,-12.065) AH1(-20.955,-13.335) AH2(-19.685,-13.335) AH3(-18.415,-13.335) AH4(-17.145,-13.335) AH5(-15.875,-13.335) AH6(-14.605,-13.335) AH7(-13.335,-13.335) AH8(-12.065,-13.335) AH9(-10.795,-13.335) AH10(-9.525,-13.335) AH11(-8.255,-13.335) AH12(-6.985,-13.335) AH13(-5.715,-13.335) AH14(-4.445,-13.335) AH15(-3.175,-13.335) AH16(-1.905,-13.335) AH17(-0.635,-13.335) AH18(0.635,-13.335) AH19(1.905,-13.335) AH20(3.175,-13.335) AH21(4.445,-13.335) AH22(5.715,-13.335) AH23(6.985,-13.335) AH24(8.255,-13.335) AH25(9.525,-13.335) AH26(10.795,-13.335) AH27(12.065,-13.335) AH28(13.335,-13.335) AH29(14.605,-13.335) AH30(15.875,-13.335) AH31(17.145,-13.335) AH32(18.415,-13.335) AH33(19.685,-13.335) AH34(20.955,-13.335) AJ1(-20.955,-14.605) AJ2(-19.685,-14.605) AJ3(-18.415,-14.605) AJ4(-17.145,-14.605) AJ5(-15.875,-14.605) AJ6(-14.605,-14.605) AJ7(-13.335,-14.605) AJ8(-12.065,-14.605) AJ9(-10.795,-14.605) AJ10(-9.525,-14.605) AJ11(-8.255,-14.605) AJ12(-6.985,-14.605) AJ13(-5.715,-14.605) AJ14(-4.445,-14.605) AJ15(-3.175,-14.605) AJ16(-1.905,-14.605) AJ17(-0.635,-14.605) AJ18(0.635,-14.605) AJ19(1.905,-14.605) AJ20(3.175,-14.605) AJ21(4.445,-14.605) AJ22(5.715,-14.605) AJ23(6.985,-14.605) AJ24(8.255,-14.605) AJ25(9.525,-14.605) AJ26(10.795,-14.605) AJ27(12.065,-14.605) AJ28(13.335,-14.605) AJ29(14.605,-14.605) AJ30(15.875,-14.605) AJ31(17.145,-14.605) AJ32(18.415,-14.605) AJ33(19.685,-14.605) AJ34(20.955,-14.605) AK1(-20.955,-15.875) AK2(-19.685,-15.875) AK3(-18.415,-15.875) AK4(-17.145,-15.875) AK5(-15.875,-15.875) AK6(-14.605,-15.875) AK7(-13.335,-15.875) AK8(-12.065,-15.875) AK9(-10.795,-15.875) AK10(-9.525,-15.875) AK11(-8.255,-15.875) AK12(-6.985,-15.875) AK13(-5.715,-15.875) AK14(-4.445,-15.875) AK15(-3.175,-15.875) AK16(-1.905,-15.875) AK17(-0.635,-15.875) AK18(0.635,-15.875) AK19(1.905,-15.875) AK20(3.175,-15.875) AK21(4.445,-15.875) AK22(5.715,-15.875) AK23(6.985,-15.875) AK24(8.255,-15.875) AK25(9.525,-15.875) AK26(10.795,-15.875) AK27(12.065,-15.875) AK28(13.335,-15.875) AK29(14.605,-15.875) AK30(15.875,-15.875) AK31(17.145,-15.875) AK32(18.415,-15.875) AK33(19.685,-15.875) AK34(20.955,-15.875) AL1(-20.955,-17.145) AL2(-19.685,-17.145) AL3(-18.415,-17.145) AL4(-17.145,-17.145) AL5(-15.875,-17.145) AL6(-14.605,-17.145) AL7(-13.335,-17.145) AL8(-12.065,-17.145) AL9(-10.795,-17.145) AL10(-9.525,-17.145) AL11(-8.255,-17.145) AL12(-6.985,-17.145) AL13(-5.715,-17.145) AL14(-4.445,-17.145) AL15(-3.175,-17.145) AL16(-1.905,-17.145) AL17(-0.635,-17.145) AL18(0.635,-17.145) AL19(1.905,-17.145) AL20(3.175,-17.145) AL21(4.445,-17.145) AL22(5.715,-17.145) AL23(6.985,-17.145) AL24(8.255,-17.145) AL25(9.525,-17.145) AL26(10.795,-17.145) AL27(12.065,-17.145) AL28(13.335,-17.145) AL29(14.605,-17.145) AL30(15.875,-17.145) AL31(17.145,-17.145) AL32(18.415,-17.145) AL33(19.685,-17.145) AL34(20.955,-17.145) AM1(-20.955,-18.415) AM2(-19.685,-18.415) AM3(-18.415,-18.415) AM4(-17.145,-18.415) AM5(-15.875,-18.415) AM6(-14.605,-18.415) AM7(-13.335,-18.415) AM8(-12.065,-18.415) AM9(-10.795,-18.415) AM10(-9.525,-18.415) AM11(-8.255,-18.415) AM12(-6.985,-18.415) AM13(-5.715,-18.415) AM14(-4.445,-18.415) AM15(-3.175,-18.415) AM16(-1.905,-18.415) AM17(-0.635,-18.415) AM18(0.635,-18.415) AM19(1.905,-18.415) AM20(3.175,-18.415) AM21(4.445,-18.415) AM22(5.715,-18.415) AM23(6.985,-18.415) AM24(8.255,-18.415) AM25(9.525,-18.415) AM26(10.795,-18.415) AM27(12.065,-18.415) AM28(13.335,-18.415) AM29(14.605,-18.415) AM30(15.875,-18.415) AM31(17.145,-18.415) AM32(18.415,-18.415) AM33(19.685,-18.415) AM34(20.955,-18.415) AN1(-20.955,-19.685) AN2(-19.685,-19.685) AN3(-18.415,-19.685) AN4(-17.145,-19.685) AN5(-15.875,-19.685) AN6(-14.605,-19.685) AN7(-13.335,-19.685) AN8(-12.065,-19.685) AN9(-10.795,-19.685) AN10(-9.525,-19.685) AN11(-8.255,-19.685) AN12(-6.985,-19.685) AN13(-5.715,-19.685) AN14(-4.445,-19.685) AN15(-3.175,-19.685) AN16(-1.905,-19.685) AN17(-0.635,-19.685) AN18(0.635,-19.685) AN19(1.905,-19.685) AN20(3.175,-19.685) AN21(4.445,-19.685) AN22(5.715,-19.685) AN23(6.985,-19.685) AN24(8.255,-19.685) AN25(9.525,-19.685) AN26(10.795,-19.685) AN27(12.065,-19.685) AN28(13.335,-19.685) AN29(14.605,-19.685) AN30(15.875,-19.685) AN31(17.145,-19.685) AN32(18.415,-19.685) AN33(19.685,-19.685) AN34(20.955,-19.685) AP1(-20.955,-20.955) AP2(-19.685,-20.955) AP3(-18.415,-20.955) AP4(-17.145,-20.955) AP5(-15.875,-20.955) AP6(-14.605,-20.955) AP7(-13.335,-20.955) AP8(-12.065,-20.955) AP9(-10.795,-20.955) AP10(-9.525,-20.955) AP11(-8.255,-20.955) AP12(-6.985,-20.955) AP13(-5.715,-20.955) AP14(-4.445,-20.955) AP15(-3.175,-20.955) AP16(-1.905,-20.955) AP17(-0.635,-20.955) AP18(0.635,-20.955) AP19(1.905,-20.955) AP20(3.175,-20.955) AP21(4.445,-20.955) AP22(5.715,-20.955) AP23(6.985,-20.955) AP24(8.255,-20.955) AP25(9.525,-20.955) AP26(10.795,-20.955) AP27(12.065,-20.955) AP28(13.335,-20.955) AP29(14.605,-20.955) AP30(15.875,-20.955) AP31(17.145,-20.955) AP32(18.415,-20.955) AP33(19.685,-20.955) AP34(20.955,-20.955) B1(-20.955,19.685) B2(-19.685,19.685) B3(-18.415,19.685) B4(-17.145,19.685) B5(-15.875,19.685) B6(-14.605,19.685) B7(-13.335,19.685) B8(-12.065,19.685) B9(-10.795,19.685) B10(-9.525,19.685) B11(-8.255,19.685) B12(-6.985,19.685) B13(-5.715,19.685) B14(-4.445,19.685) B15(-3.175,19.685) B16(-1.905,19.685) B17(-0.635,19.685) B18(0.635,19.685) B19(1.905,19.685) B20(3.175,19.685) B21(4.445,19.685) B22(5.715,19.685) B23(6.985,19.685) B24(8.255,19.685) B25(9.525,19.685) B26(10.795,19.685) B27(12.065,19.685) B28(13.335,19.685) B29(14.605,19.685) B30(15.875,19.685) B31(17.145,19.685) B32(18.415,19.685) B33(19.685,19.685) B34(20.955,19.685) C1(-20.955,18.415) C2(-19.685,18.415) C3(-18.415,18.415) C4(-17.145,18.415) C5(-15.875,18.415) C6(-14.605,18.415) C7(-13.335,18.415) C8(-12.065,18.415) C9(-10.795,18.415) C10(-9.525,18.415) C11(-8.255,18.415) C12(-6.985,18.415) C13(-5.715,18.415) C14(-4.445,18.415) C15(-3.175,18.415) C16(-1.905,18.415) C17(-0.635,18.415) C18(0.635,18.415) C19(1.905,18.415) C20(3.175,18.415) C21(4.445,18.415) C22(5.715,18.415) C23(6.985,18.415) C24(8.255,18.415) C25(9.525,18.415) C26(10.795,18.415) C27(12.065,18.415) C28(13.335,18.415) C29(14.605,18.415) C30(15.875,18.415) C31(17.145,18.415) C32(18.415,18.415) C33(19.685,18.415) C34(20.955,18.415) D1(-20.955,17.145) D2(-19.685,17.145) D3(-18.415,17.145) D4(-17.145,17.145) D5(-15.875,17.145) D6(-14.605,17.145) D7(-13.335,17.145) D8(-12.065,17.145) D9(-10.795,17.145) D10(-9.525,17.145) D11(-8.255,17.145) D12(-6.985,17.145) D13(-5.715,17.145) D14(-4.445,17.145) D15(-3.175,17.145) D16(-1.905,17.145) D17(-0.635,17.145) D18(0.635,17.145) D19(1.905,17.145) D20(3.175,17.145) D21(4.445,17.145) D22(5.715,17.145) D23(6.985,17.145) D24(8.255,17.145) D25(9.525,17.145) D26(10.795,17.145) D27(12.065,17.145) D28(13.335,17.145) D29(14.605,17.145) D30(15.875,17.145) D31(17.145,17.145) D32(18.415,17.145) D33(19.685,17.145) D34(20.955,17.145) E1(-20.955,15.875) E2(-19.685,15.875) E3(-18.415,15.875) E4(-17.145,15.875) E5(-15.875,15.875) E6(-14.605,15.875) E7(-13.335,15.875) E8(-12.065,15.875) E9(-10.795,15.875) E10(-9.525,15.875) E11(-8.255,15.875) E12(-6.985,15.875) E13(-5.715,15.875) E14(-4.445,15.875) E15(-3.175,15.875) E16(-1.905,15.875) E17(-0.635,15.875) E18(0.635,15.875) E19(1.905,15.875) E20(3.175,15.875) E21(4.445,15.875) E22(5.715,15.875) E23(6.985,15.875) E24(8.255,15.875) E25(9.525,15.875) E26(10.795,15.875) E27(12.065,15.875) E28(13.335,15.875) E29(14.605,15.875) E30(15.875,15.875) E31(17.145,15.875) E32(18.415,15.875) E33(19.685,15.875) E34(20.955,15.875) F1(-20.955,14.605) F2(-19.685,14.605) F3(-18.415,14.605) F4(-17.145,14.605) F5(-15.875,14.605) F6(-14.605,14.605) F7(-13.335,14.605) F8(-12.065,14.605) F9(-10.795,14.605) F10(-9.525,14.605) F11(-8.255,14.605) F12(-6.985,14.605) F13(-5.715,14.605) F14(-4.445,14.605) F15(-3.175,14.605) F16(-1.905,14.605) F17(-0.635,14.605) F18(0.635,14.605) F19(1.905,14.605) F20(3.175,14.605) F21(4.445,14.605) F22(5.715,14.605) F23(6.985,14.605) F24(8.255,14.605) F25(9.525,14.605) F26(10.795,14.605) F27(12.065,14.605) F28(13.335,14.605) F29(14.605,14.605) F30(15.875,14.605) F31(17.145,14.605) F32(18.415,14.605) F33(19.685,14.605) F34(20.955,14.605) G1(-20.955,13.335) G2(-19.685,13.335) G3(-18.415,13.335) G4(-17.145,13.335) G5(-15.875,13.335) G6(-14.605,13.335) G7(-13.335,13.335) G8(-12.065,13.335) G9(-10.795,13.335) G10(-9.525,13.335) G11(-8.255,13.335) G12(-6.985,13.335) G13(-5.715,13.335) G14(-4.445,13.335) G15(-3.175,13.335) G16(-1.905,13.335) G17(-0.635,13.335) G18(0.635,13.335) G19(1.905,13.335) G20(3.175,13.335) G21(4.445,13.335) G22(5.715,13.335) G23(6.985,13.335) G24(8.255,13.335) G25(9.525,13.335) G26(10.795,13.335) G27(12.065,13.335) G28(13.335,13.335) G29(14.605,13.335) G30(15.875,13.335) G31(17.145,13.335) G32(18.415,13.335) G33(19.685,13.335) G34(20.955,13.335) H1(-20.955,12.065) H2(-19.685,12.065) H3(-18.415,12.065) H4(-17.145,12.065) H5(-15.875,12.065) H6(-14.605,12.065) H7(-13.335,12.065) H8(-12.065,12.065) H9(-10.795,12.065) H10(-9.525,12.065) H11(-8.255,12.065) H12(-6.985,12.065) H13(-5.715,12.065) H14(-4.445,12.065) H15(-3.175,12.065) H16(-1.905,12.065) H17(-0.635,12.065) H18(0.635,12.065) H19(1.905,12.065) H20(3.175,12.065) H21(4.445,12.065) H22(5.715,12.065) H23(6.985,12.065) H24(8.255,12.065) H25(9.525,12.065) H26(10.795,12.065) H27(12.065,12.065) H28(13.335,12.065) H29(14.605,12.065) H30(15.875,12.065) H31(17.145,12.065) H32(18.415,12.065) H33(19.685,12.065) H34(20.955,12.065) J1(-20.955,10.795) J2(-19.685,10.795) J3(-18.415,10.795) J4(-17.145,10.795) J5(-15.875,10.795) J6(-14.605,10.795) J7(-13.335,10.795) J8(-12.065,10.795) J9(-10.795,10.795) J10(-9.525,10.795) J11(-8.255,10.795) J12(-6.985,10.795) J13(-5.715,10.795) J14(-4.445,10.795) J15(-3.175,10.795) J16(-1.905,10.795) J17(-0.635,10.795) J18(0.635,10.795) J19(1.905,10.795) J20(3.175,10.795) J21(4.445,10.795) J22(5.715,10.795) J23(6.985,10.795) J24(8.255,10.795) J25(9.525,10.795) J26(10.795,10.795) J27(12.065,10.795) J28(13.335,10.795) J29(14.605,10.795) J30(15.875,10.795) J31(17.145,10.795) J32(18.415,10.795) J33(19.685,10.795) J34(20.955,10.795) K1(-20.955,9.525) K2(-19.685,9.525) K3(-18.415,9.525) K4(-17.145,9.525) K5(-15.875,9.525) K6(-14.605,9.525) K7(-13.335,9.525) K8(-12.065,9.525) K9(-10.795,9.525) K10(-9.525,9.525) K11(-8.255,9.525) K12(-6.985,9.525) K13(-5.715,9.525) K14(-4.445,9.525) K15(-3.175,9.525) K16(-1.905,9.525) K17(-0.635,9.525) K18(0.635,9.525) K19(1.905,9.525) K20(3.175,9.525) K21(4.445,9.525) K22(5.715,9.525) K23(6.985,9.525) K24(8.255,9.525) K25(9.525,9.525) K26(10.795,9.525) K27(12.065,9.525) K28(13.335,9.525) K29(14.605,9.525) K30(15.875,9.525) K31(17.145,9.525) K32(18.415,9.525) K33(19.685,9.525) K34(20.955,9.525) L1(-20.955,8.255) L2(-19.685,8.255) L3(-18.415,8.255) L4(-17.145,8.255) L5(-15.875,8.255) L6(-14.605,8.255) L7(-13.335,8.255) L8(-12.065,8.255) L9(-10.795,8.255) L10(-9.525,8.255) L11(-8.255,8.255) L12(-6.985,8.255) L13(-5.715,8.255) L14(-4.445,8.255) L15(-3.175,8.255) L16(-1.905,8.255) L17(-0.635,8.255) L18(0.635,8.255) L19(1.905,8.255) L20(3.175,8.255) L21(4.445,8.255) L22(5.715,8.255) L23(6.985,8.255) L24(8.255,8.255) L25(9.525,8.255) L26(10.795,8.255) L27(12.065,8.255) L28(13.335,8.255) L29(14.605,8.255) L30(15.875,8.255) L31(17.145,8.255) L32(18.415,8.255) L33(19.685,8.255) L34(20.955,8.255) M1(-20.955,6.985) M2(-19.685,6.985) M3(-18.415,6.985) M4(-17.145,6.985) M5(-15.875,6.985) M6(-14.605,6.985) M7(-13.335,6.985) M8(-12.065,6.985) M9(-10.795,6.985) M10(-9.525,6.985) M11(-8.255,6.985) M12(-6.985,6.985) M13(-5.715,6.985) M14(-4.445,6.985) M15(-3.175,6.985) M16(-1.905,6.985) M17(-0.635,6.985) M18(0.635,6.985) M19(1.905,6.985) M20(3.175,6.985) M21(4.445,6.985) M22(5.715,6.985) M23(6.985,6.985) M24(8.255,6.985) M25(9.525,6.985) M26(10.795,6.985) M27(12.065,6.985) M28(13.335,6.985) M29(14.605,6.985) M30(15.875,6.985) M31(17.145,6.985) M32(18.415,6.985) M33(19.685,6.985) M34(20.955,6.985) N1(-20.955,5.715) N2(-19.685,5.715) N3(-18.415,5.715) N4(-17.145,5.715) N5(-15.875,5.715) N6(-14.605,5.715) N7(-13.335,5.715) N8(-12.065,5.715) N9(-10.795,5.715) N10(-9.525,5.715) N11(-8.255,5.715) N12(-6.985,5.715) N13(-5.715,5.715) N14(-4.445,5.715) N15(-3.175,5.715) N16(-1.905,5.715) N17(-0.635,5.715) N18(0.635,5.715) N19(1.905,5.715) N20(3.175,5.715) N21(4.445,5.715) N22(5.715,5.715) N23(6.985,5.715) N24(8.255,5.715) N25(9.525,5.715) N26(10.795,5.715) N27(12.065,5.715) N28(13.335,5.715) N29(14.605,5.715) N30(15.875,5.715) N31(17.145,5.715) N32(18.415,5.715) N33(19.685,5.715) N34(20.955,5.715) P1(-20.955,4.445) P2(-19.685,4.445) P3(-18.415,4.445) P4(-17.145,4.445) P5(-15.875,4.445) P6(-14.605,4.445) P7(-13.335,4.445) P8(-12.065,4.445) P9(-10.795,4.445) P10(-9.525,4.445) P11(-8.255,4.445) P12(-6.985,4.445) P13(-5.715,4.445) P14(-4.445,4.445) P15(-3.175,4.445) P16(-1.905,4.445) P17(-0.635,4.445) P18(0.635,4.445) P19(1.905,4.445) P20(3.175,4.445) P21(4.445,4.445) P22(5.715,4.445) P23(6.985,4.445) P24(8.255,4.445) P25(9.525,4.445) P26(10.795,4.445) P27(12.065,4.445) P28(13.335,4.445) P29(14.605,4.445) P30(15.875,4.445) P31(17.145,4.445) P32(18.415,4.445) P33(19.685,4.445) P34(20.955,4.445) R1(-20.955,3.175) R2(-19.685,3.175) R3(-18.415,3.175) R4(-17.145,3.175) R5(-15.875,3.175) R6(-14.605,3.175) R7(-13.335,3.175) R8(-12.065,3.175) R9(-10.795,3.175) R10(-9.525,3.175) R11(-8.255,3.175) R12(-6.985,3.175) R13(-5.715,3.175) R14(-4.445,3.175) R15(-3.175,3.175) R16(-1.905,3.175) R17(-0.635,3.175) R18(0.635,3.175) R19(1.905,3.175) R20(3.175,3.175) R21(4.445,3.175) R22(5.715,3.175) R23(6.985,3.175) R24(8.255,3.175) R25(9.525,3.175) R26(10.795,3.175) R27(12.065,3.175) R28(13.335,3.175) R29(14.605,3.175) R30(15.875,3.175) R31(17.145,3.175) R32(18.415,3.175) R33(19.685,3.175) R34(20.955,3.175) T1(-20.955,1.905) T2(-19.685,1.905) T3(-18.415,1.905) T4(-17.145,1.905) T5(-15.875,1.905) T6(-14.605,1.905) T7(-13.335,1.905) T8(-12.065,1.905) T9(-10.795,1.905) T10(-9.525,1.905) T11(-8.255,1.905) T12(-6.985,1.905) T13(-5.715,1.905) T14(-4.445,1.905) T15(-3.175,1.905) T16(-1.905,1.905) T17(-0.635,1.905) T18(0.635,1.905) T19(1.905,1.905) T20(3.175,1.905) T21(4.445,1.905) T22(5.715,1.905) T23(6.985,1.905) T24(8.255,1.905) T25(9.525,1.905) T26(10.795,1.905) T27(12.065,1.905) T28(13.335,1.905) T29(14.605,1.905) T30(15.875,1.905) T31(17.145,1.905) T32(18.415,1.905) T33(19.685,1.905) T34(20.955,1.905) U1(-20.955,0.635) U2(-19.685,0.635) U3(-18.415,0.635) U4(-17.145,0.635) U5(-15.875,0.635) U6(-14.605,0.635) U7(-13.335,0.635) U8(-12.065,0.635) U9(-10.795,0.635) U10(-9.525,0.635) U11(-8.255,0.635) U12(-6.985,0.635) U13(-5.715,0.635) U14(-4.445,0.635) U15(-3.175,0.635) U16(-1.905,0.635) U17(-0.635,0.635) U18(0.635,0.635) U19(1.905,0.635) U20(3.175,0.635) U21(4.445,0.635) U22(5.715,0.635) U23(6.985,0.635) U24(8.255,0.635) U25(9.525,0.635) U26(10.795,0.635) U27(12.065,0.635) U28(13.335,0.635) U29(14.605,0.635) U30(15.875,0.635) U31(17.145,0.635) U32(18.415,0.635) U33(19.685,0.635) U34(20.955,0.635) V1(-20.955,-0.635) V2(-19.685,-0.635) V3(-18.415,-0.635) V4(-17.145,-0.635) V5(-15.875,-0.635) V6(-14.605,-0.635) V7(-13.335,-0.635) V8(-12.065,-0.635) V9(-10.795,-0.635) V10(-9.525,-0.635) V11(-8.255,-0.635) V12(-6.985,-0.635) V13(-5.715,-0.635) V14(-4.445,-0.635) V15(-3.175,-0.635) V16(-1.905,-0.635) V17(-0.635,-0.635) V18(0.635,-0.635) V19(1.905,-0.635) V20(3.175,-0.635) V21(4.445,-0.635) V22(5.715,-0.635) V23(6.985,-0.635) V24(8.255,-0.635) V25(9.525,-0.635) V26(10.795,-0.635) V27(12.065,-0.635) V28(13.335,-0.635) V29(14.605,-0.635) V30(15.875,-0.635) V31(17.145,-0.635) V32(18.415,-0.635) V33(19.685,-0.635) V34(20.955,-0.635) W1(-20.955,-1.905) W2(-19.685,-1.905) W3(-18.415,-1.905) W4(-17.145,-1.905) W5(-15.875,-1.905) W6(-14.605,-1.905) W7(-13.335,-1.905) W8(-12.065,-1.905) W9(-10.795,-1.905) W10(-9.525,-1.905) W11(-8.255,-1.905) W12(-6.985,-1.905) W13(-5.715,-1.905) W14(-4.445,-1.905) W15(-3.175,-1.905) W16(-1.905,-1.905) W17(-0.635,-1.905) W18(0.635,-1.905) W19(1.905,-1.905) W20(3.175,-1.905) W21(4.445,-1.905) W22(5.715,-1.905) W23(6.985,-1.905) W24(8.255,-1.905) W25(9.525,-1.905) W26(10.795,-1.905) W27(12.065,-1.905) W28(13.335,-1.905) W29(14.605,-1.905) W30(15.875,-1.905) W31(17.145,-1.905) W32(18.415,-1.905) W33(19.685,-1.905) W34(20.955,-1.905) Y1(-20.955,-3.175) Y2(-19.685,-3.175) Y3(-18.415,-3.175) Y4(-17.145,-3.175) Y5(-15.875,-3.175) Y6(-14.605,-3.175) Y7(-13.335,-3.175) Y8(-12.065,-3.175) Y9(-10.795,-3.175) Y10(-9.525,-3.175) Y11(-8.255,-3.175) Y12(-6.985,-3.175) Y13(-5.715,-3.175) Y14(-4.445,-3.175) Y15(-3.175,-3.175) Y16(-1.905,-3.175) Y17(-0.635,-3.175) Y18(0.635,-3.175) Y19(1.905,-3.175) Y20(3.175,-3.175) Y21(4.445,-3.175) Y22(5.715,-3.175) Y23(6.985,-3.175) Y24(8.255,-3.175) Y25(9.525,-3.175) Y26(10.795,-3.175) Y27(12.065,-3.175) Y28(13.335,-3.175) Y29(14.605,-3.175) Y30(15.875,-3.175) Y31(17.145,-3.175) Y32(18.415,-3.175) Y33(19.685,-3.175) Y34(20.955,-3.175)
Top Overlay:
  circle w0.25: c-23.16,20.955 r0.125
  lines w0.2: -22.505,-21.495 -22.505,22.505 21.495,22.505 22.495,21.505 22.495,-21.495 21.495,-22.495 -21.505,-22.495 -22.505,-21.495